# Altium schematic symbol library Schlib_Cypress.SchLib: 10 symbols
Pins are listed as number, name and electrical type; pins without a type are passive.

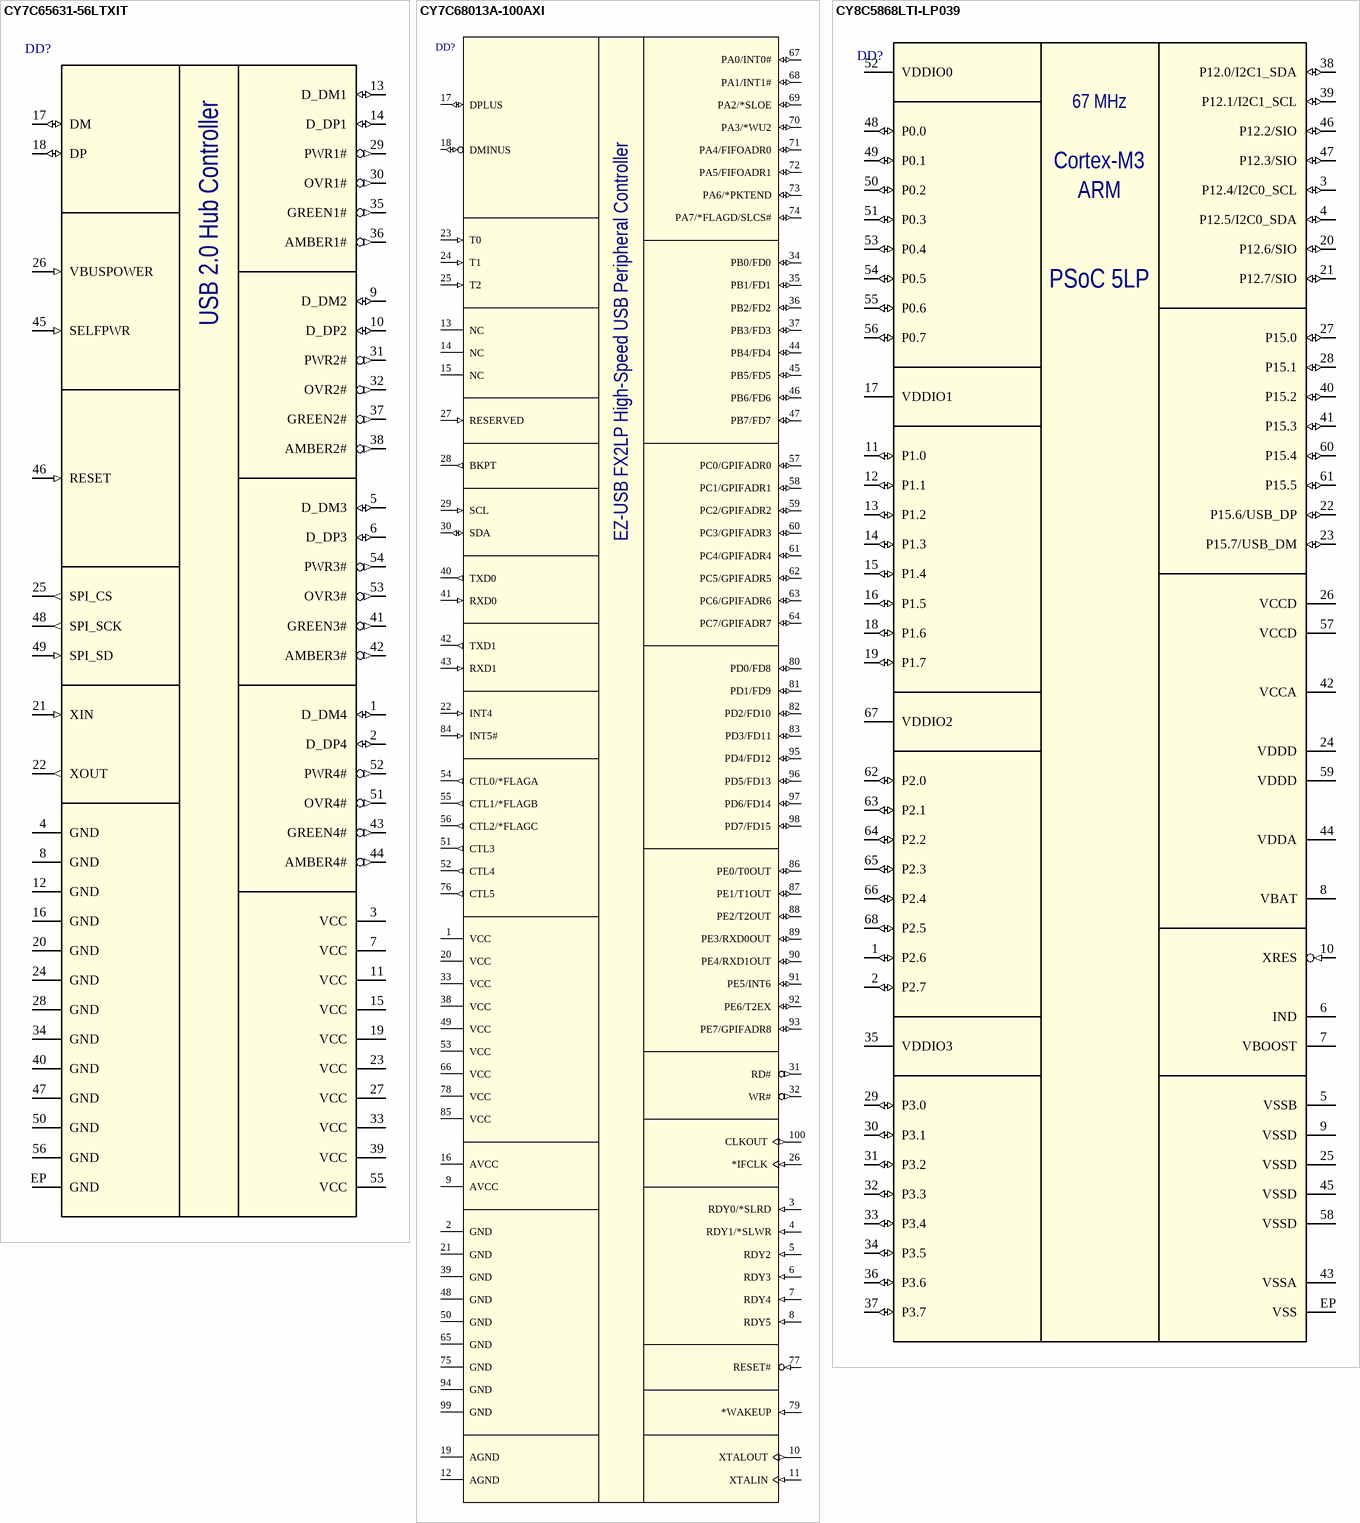
[diagram p0: symbols CY7C65631-56LTXIT to CY8C5868LTI-LP039]

## CY7C65631-56LTXIT
designator DD?  (value not drawn)
Low Power USB 2.0 Hub Controller (4 ports); Manufacturer: Cypress Semiconductor Corp.; Package: QFN-56; Part Number: CY7C65631-56LTXIT
footprint QFN56 (QFN56 package, 8x8mm, 0.5mm pitch)
pins: 1 D_DM4 (io), 2 D_DP4 (io), 3 VCC (power), 4 GND (power), 5 D_DM3 (io), 6 D_DP3 (io), 7 VCC (power), 8 GND (power), 9 D_DM2 (io), 10 D_DP2 (io), 11 VCC (power), 12 GND (power), 13 D_DM1 (io), 14 D_DP1 (io), 15 VCC (power), 16 GND (power), 17 DM (io), 18 DP (io), 19 VCC (power), 20 GND (power), 21 XIN (in), 22 XOUT (out), 23 VCC (power), 24 GND (power), 25 SPI_CS (out), 26 VBUSPOWER (in), 27 VCC (power), 28 GND (power), 29 PWR1# (out), 30 OVR1# (out), 31 PWR2# (out), 32 OVR2# (out), 33 VCC (power), 34 GND (power), 35 GREEN1# (out), 36 AMBER1# (out), 37 GREEN2# (out), 38 AMBER2# (out), 39 VCC (power), 40 GND (power), 41 GREEN3# (out), 42 AMBER3# (out), 43 GREEN4# (out), 44 AMBER4# (out), 45 SELFPWR (in), 46 RESET (in), 47 GND (power), 48 SPI_SCK (out), 49 SPI_SD (in), 50 GND (power), 51 OVR4# (out), 52 PWR4# (out), 53 OVR3# (out), 54 PWR3# (out), 55 VCC (power), 56 GND (power), EP GND (power)
text: USB 2.0 Hub Controller

## CY7C68013A-100AXI
designator DD?  (value not drawn)
EZ-USB FX2LP High-Speed USB Peripheral Controller; Manufacturer: Cypress Semiconductor Corp.; Package: 100-TQFP (14x20); Part Number: CY7C68013A-100AXI
footprint TQFP-100 (14x20) (TQFP, 100-Leads, Body 14.00x20.00mm, Pitch 0.65mm, IPC Medium Density)
pins: 1 VCC (power), 2 GND (power), 3 RDY0/*SLRD (in), 4 RDY1/*SLWR (in), 5 RDY2 (in), 6 RDY3 (in), 7 RDY4 (in), 8 RDY5 (in), 9 AVCC (power), 10 XTALOUT (out), 11 XTALIN (in), 12 AGND (power), 13 NC (hiz), 14 NC (hiz), 15 NC (hiz), 16 AVCC (power), 17 DPLUS (io), 18 DMINUS (io), 19 AGND (power), 20 VCC (power), 21 GND (power), 22 INT4 (in), 23 T0 (in), 24 T1 (in), 25 T2 (in), 26 *IFCLK (in), 27 RESERVED (in), 28 BKPT (out), 29 SCL (in), 30 SDA (io), 31 RD# (out), 32 WR# (out), 33 VCC (power), 34 PB0/FD0 (io), 35 PB1/FD1 (io), 36 PB2/FD2 (io), 37 PB3/FD3 (io), 38 VCC (power), 39 GND (power), 40 TXD0 (out), 41 RXD0 (in), 42 TXD1 (out), 43 RXD1 (in), 44 PB4/FD4 (io), 45 PB5/FD5 (io), 46 PB6/FD6 (io), 47 PB7/FD7 (io), 48 GND (power), 49 VCC (power), 50 GND (power), 51 CTL3 (out), 52 CTL4 (out), 53 VCC (power), 54 CTL0/*FLAGA (out), 55 CTL1/*FLAGB (out), 56 CTL2/*FLAGC (out), 57 PC0/GPIFADR0 (io), 58 PC1/GPIFADR1 (io), 59 PC2/GPIFADR2 (io), 60 PC3/GPIFADR3 (io), 61 PC4/GPIFADR4 (io), 62 PC5/GPIFADR5 (io), 63 PC6/GPIFADR6 (io), 64 PC7/GPIFADR7 (io), 65 GND (power), 66 VCC (power), 67 PA0/INT0# (io), 68 PA1/INT1# (io), 69 PA2/*SLOE (io), 70 PA3/*WU2 (io), 71 PA4/FIFOADR0 (io), 72 PA5/FIFOADR1 (io), 73 PA6/*PKTEND (io), 74 PA7/*FLAGD/SLCS# (io), 75 GND (power), 76 CTL5 (out), 77 RESET# (in), 78 VCC (power), 79 *WAKEUP (in), 80 PD0/FD8 (io), 81 PD1/FD9 (io), 82 PD2/FD10 (io), 83 PD3/FD11 (io), 84 INT5# (in), 85 VCC (power), 86 PE0/T0OUT (io), 87 PE1/T1OUT (io), 88 PE2/T2OUT (io), 89 PE3/RXD0OUT (io), 90 PE4/RXD1OUT (io), 91 PE5/INT6 (io), 92 PE6/T2EX (io), 93 PE7/GPIFADR8 (io), 94 GND (power), 95 PD4/FD12 (io), 96 PD5/FD13 (io), 97 PD6/FD14 (io), 98 PD7/FD15 (io), 99 GND (power), 100 CLKOUT (out)

## CY8C5868LTI-LP039
designator DD?  (value not drawn)
Embedded Programmable System-on-Chip PSoC 5LP; Manufacturer: Cypress Semiconductor Corp.; Package: 68-VFQFN Exposed Pad; Dimension package: 8 x 8 x 0.75 mm; Part Number: CY8C5868LTI-LP039
footprint QFN68 (QFN68, 8x8mm with 0.4mm pitch)
pins: 1 P2.6 (io), 2 P2.7 (io), 3 P12.4/I2C0_SCL (io), 4 P12.5/I2C0_SDA (io), 5 VSSB (power), 6 IND (hiz), 7 VBOOST (power), 8 VBAT (power), 9 VSSD (power), 10 XRES (in), 11 P1.0 (io), 12 P1.1 (io), 13 P1.2 (io), 14 P1.3 (io), 15 P1.4 (io), 16 P1.5 (io), 17 VDDIO1 (power), 18 P1.6 (io), 19 P1.7 (io), 20 P12.6/SIO (io), 21 P12.7/SIO (io), 22 P15.6/USB_DP (io), 23 P15.7/USB_DM (io), 24 VDDD (power), 25 VSSD (power), 26 VCCD (power), 27 P15.0 (io), 28 P15.1 (io), 29 P3.0 (io), 30 P3.1 (io), 31 P3.2 (io), 32 P3.3 (io), 33 P3.4 (io), 34 P3.5 (io), 35 VDDIO3 (power), 36 P3.6 (io), 37 P3.7 (io), 38 P12.0/I2C1_SDA (io), 39 P12.1/I2C1_SCL (io), 40 P15.2 (io), 41 P15.3 (io), 42 VCCA (power), 43 VSSA (power), 44 VDDA (power), 45 VSSD (power), 46 P12.2/SIO (io), 47 P12.3/SIO (io), 48 P0.0 (io), 49 P0.1 (io), 50 P0.2 (io), 51 P0.3 (io), 52 VDDIO0 (power), 53 P0.4 (io), 54 P0.5 (io), 55 P0.6 (io), 56 P0.7 (io), 57 VCCD (power), 58 VSSD (power), 59 VDDD (power), 60 P15.4 (io), 61 P15.5 (io), 62 P2.0 (io), 63 P2.1 (io), 64 P2.2 (io), 65 P2.3 (io), 66 P2.4 (io), 67 VDDIO2 (power), 68 P2.5 (io), EP VSS (power)
text: 67 MHz; Cortex-M3; ARM; PSoC 5LP

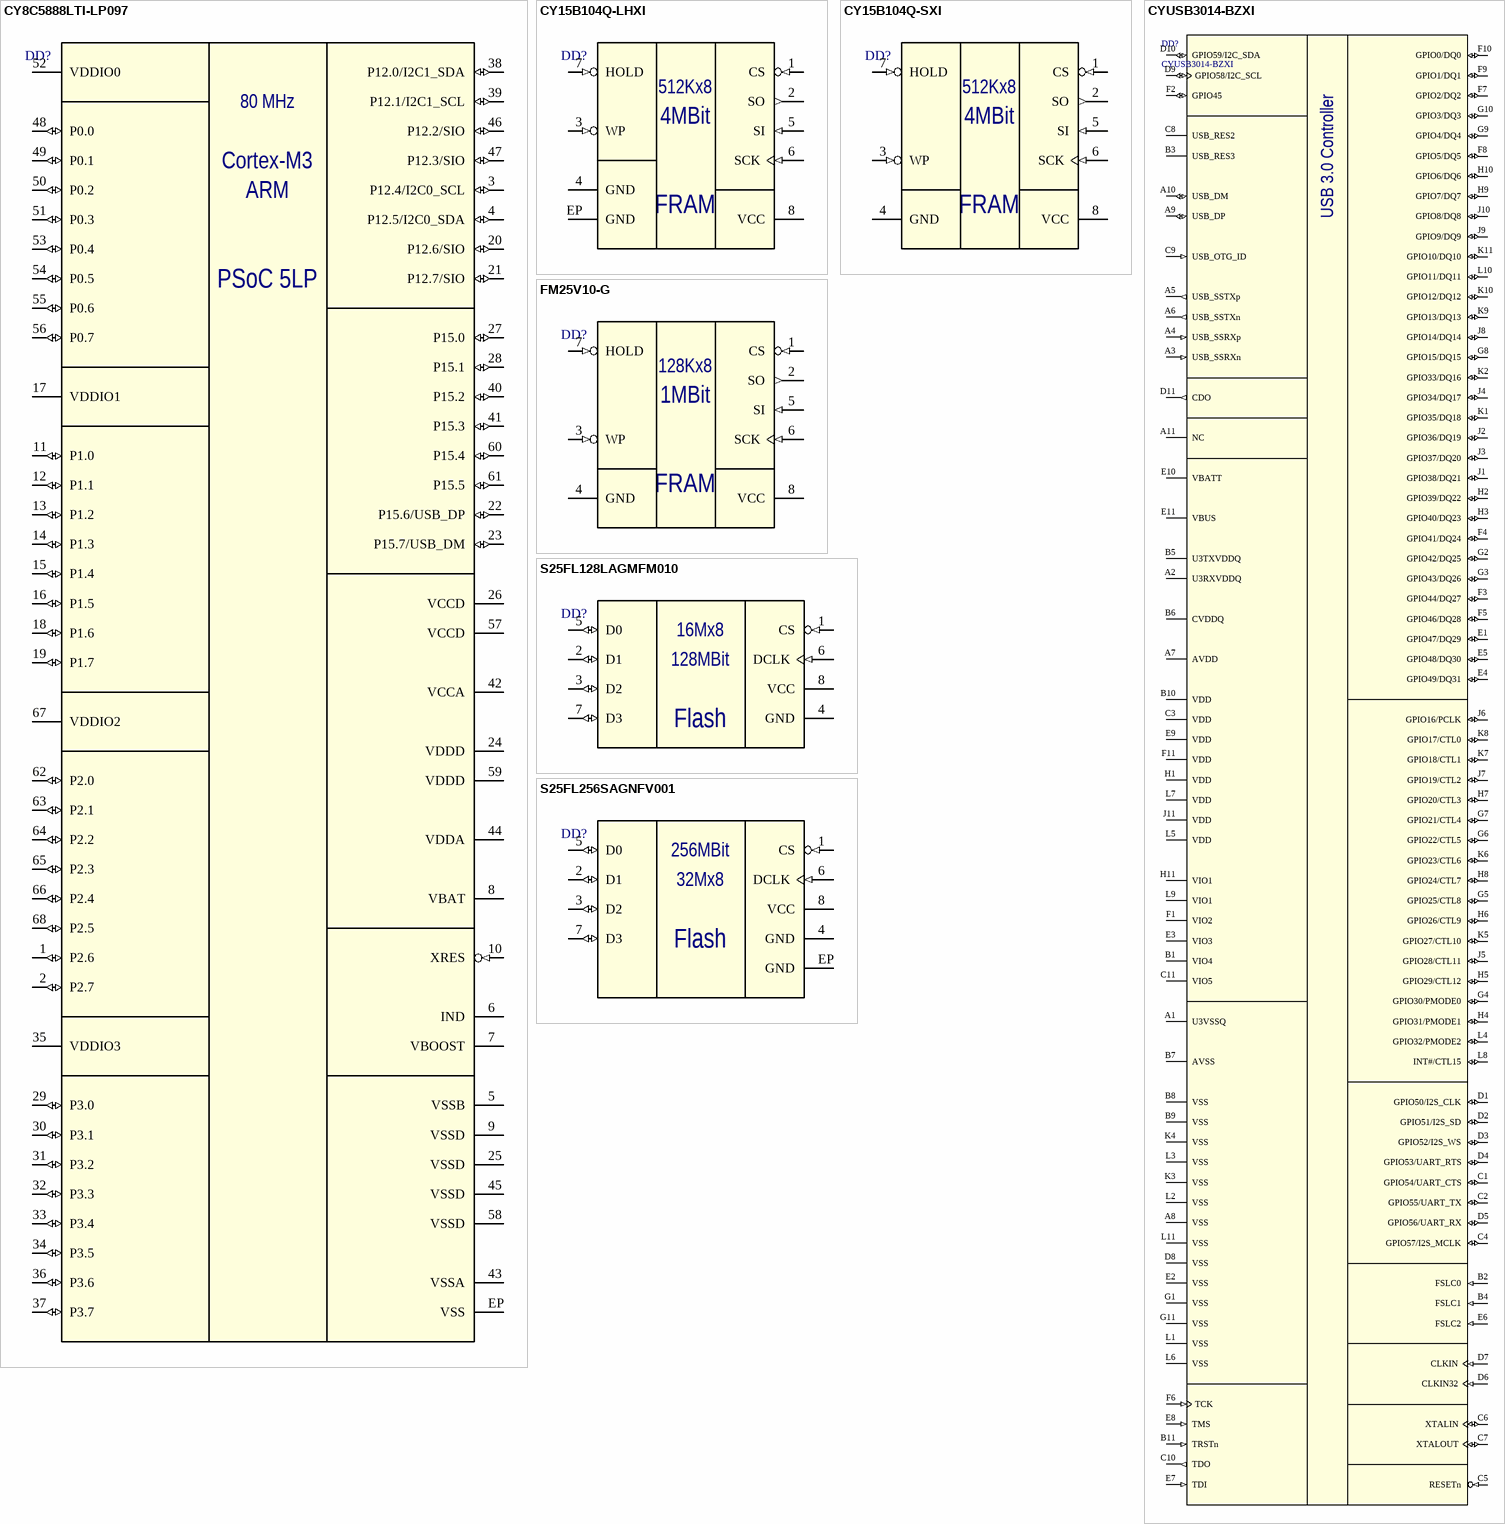
[diagram p1: symbols CY8C5888LTI-LP097 to S25FL256SAGNFV001]

## CY8C5888LTI-LP097
designator DD?  (value not drawn)
Embedded Programmable System-on-Chip PSoC 5LP; Manufacturer: Cypress Semiconductor Corp.; Package: 68-VFQFN Exposed Pad; Dimension package: 8 x 8 x 0.75 mm; Part Number: CY8C5888LTI-LP097
footprint QFN68 (QFN68, 8x8mm with 0.4mm pitch)
pins: 1 P2.6 (io), 2 P2.7 (io), 3 P12.4/I2C0_SCL (io), 4 P12.5/I2C0_SDA (io), 5 VSSB (power), 6 IND (hiz), 7 VBOOST (power), 8 VBAT (power), 9 VSSD (power), 10 XRES (in), 11 P1.0 (io), 12 P1.1 (io), 13 P1.2 (io), 14 P1.3 (io), 15 P1.4 (io), 16 P1.5 (io), 17 VDDIO1 (power), 18 P1.6 (io), 19 P1.7 (io), 20 P12.6/SIO (io), 21 P12.7/SIO (io), 22 P15.6/USB_DP (io), 23 P15.7/USB_DM (io), 24 VDDD (power), 25 VSSD (power), 26 VCCD (power), 27 P15.0 (io), 28 P15.1 (io), 29 P3.0 (io), 30 P3.1 (io), 31 P3.2 (io), 32 P3.3 (io), 33 P3.4 (io), 34 P3.5 (io), 35 VDDIO3 (power), 36 P3.6 (io), 37 P3.7 (io), 38 P12.0/I2C1_SDA (io), 39 P12.1/I2C1_SCL (io), 40 P15.2 (io), 41 P15.3 (io), 42 VCCA (power), 43 VSSA (power), 44 VDDA (power), 45 VSSD (power), 46 P12.2/SIO (io), 47 P12.3/SIO (io), 48 P0.0 (io), 49 P0.1 (io), 50 P0.2 (io), 51 P0.3 (io), 52 VDDIO0 (power), 53 P0.4 (io), 54 P0.5 (io), 55 P0.6 (io), 56 P0.7 (io), 57 VCCD (power), 58 VSSD (power), 59 VDDD (power), 60 P15.4 (io), 61 P15.5 (io), 62 P2.0 (io), 63 P2.1 (io), 64 P2.2 (io), 65 P2.3 (io), 66 P2.4 (io), 67 VDDIO2 (power), 68 P2.5 (io), EP VSS (power)
text: 80 MHz; Cortex-M3; ARM; PSoC 5LP

## CY15B104Q-LHXI
designator DD?  (value not drawn)
FRAM Memory 4MBit (512K x 8); Manufacturer: Cypress Semiconductor Corp.; Package: TDFN-8; Dimension package: 5 x 6 x 0.75 mm; Part Number: CY15B104Q-LHXI
footprint SON-8 (SON-8, 8-Leads, Body 6,00x5,00mm, Pitch 1,27mm, Thermal Pad 4,1x2,4mm)
pins: 1 CS (in), 2 SO (out), 3 WP (in), 4 GND (power), 5 SI (in), 6 SCK (in), 7 HOLD (in), 8 VCC (power), EP GND (power)
text: 512Kx8; 4MBit; FRAM

## CY15B104Q-SXI
designator DD?  (value not drawn)
FRAM Memory 4MBit (512K x 8); Manufacturer: Cypress Semiconductor Corp.; Package: SOIC8; Part Number: CY15B104Q-SXI
footprint SOIC-8-WIDE (SOIC, 8-Leads, Body 4.50x4.50mm, Pitch 1.27mm, Thermal Pad 4.20x4.20mm, IPC Medium Density)
pins: 1 CS (in), 2 SO (out), 3 WP (in), 4 GND (power), 5 SI (in), 6 SCK (in), 7 HOLD (in), 8 VCC (power)
text: 512Kx8; 4MBit; FRAM

## CYUSB3014-BZXI
designator DD?
EZ-USB® FX3: SuperSpeed USB Controller; Manufacturer: Cypress Semiconductor Corp.; Package: BGA-121; Part Nubmer: CYUSB3014-BZXI
footprint BGA-121 (BGA-121 package with 0.8mm pitch)
pins: A1 U3VSSQ (power), A2 U3RXVDDQ (power), A3 USB_SSRXn (in), A4 USB_SSRXp (in), A5 USB_SSTXp (out), A6 USB_SSTXn (out), A7 AVDD (power), A8 VSS (power), A9 USB_DP (io), A10 USB_DM (io), A11 NC, B1 VIO4 (power), B2 FSLC0 (in), B3 USB_RES3, B4 FSLC1 (in), B5 U3TXVDDQ (power), B6 CVDDQ (power), B7 AVSS (power), B8 VSS (power), B9 VSS (power), B10 VDD (power), B11 TRSTn (in), C1 GPIO54/UART_CTS (io), C2 GPIO55/UART_TX (io), C3 VDD (power), C4 GPIO57/I2S_MCLK (io), C5 RESETn (in), C6 XTALIN (io), C7 XTALOUT (io), C8 USB_RES2, C9 USB_OTG_ID (in), C10 TDO (out), C11 VIO5 (power), D1 GPIO50/I2S_CLK (io), D2 GPIO51/I2S_SD (io), D3 GPIO52/I2S_WS (io), D4 GPIO53/UART_RTS (io), D5 GPIO56/UART_RX (io), D6 CLKIN32 (in), D7 CLKIN (in), D8 VSS (power), D9 GPIO58/I2C_SCL (io), D10 GPIO59/I2C_SDA (io), D11 CDO (out), E1 GPIO47/DQ29 (io), E2 VSS (power), E3 VIO3 (power), E4 GPIO49/DQ31 (io), E5 GPIO48/DQ30 (io), E6 FSLC2 (in), E7 TDI (in), E8 TMS (in), E9 VDD (power), E10 VBATT (power), E11 VBUS (power), F1 VIO2 (power), F2 GPIO45 (io), F3 GPIO44/DQ27 (io), F4 GPIO41/DQ24 (io), F5 GPIO46/DQ28 (io), F6 TCK (in), F7 GPIO2/DQ2 (io), F8 GPIO5/DQ5 (io), F9 GPIO1/DQ1 (io), F10 GPIO0/DQ0 (io), F11 VDD (power), G1 VSS (power), G2 GPIO42/DQ25 (io), G3 GPIO43/DQ26 (io), G4 GPIO30/PMODE0 (io), G5 GPIO25/CTL8 (io), G6 GPIO22/CTL5 (io), G7 GPIO21/CTL4 (io), G8 GPIO15/DQ15 (io), G9 GPIO4/DQ4 (io), G10 GPIO3/DQ3 (io), G11 VSS (power), H1 VDD (power), H2 GPIO39/DQ22 (io), H3 GPIO40/DQ23 (io), H4 GPIO31/PMODE1 (io), H5 GPIO29/CTL12 (io), H6 GPIO26/CTL9 (io), H7 GPIO20/CTL3 (io), H8 GPIO24/CTL7 (io), H9 GPIO7/DQ7 (io), H10 GPIO6/DQ6 (io), H11 VIO1 (power), J1 GPIO38/DQ21 (io), J2 GPIO36/DQ19 (io), J3 GPIO37/DQ20 (io), J4 GPIO34/DQ17 (io), J5 GPIO28/CTL11 (io), J6 GPIO16/PCLK (io), J7 GPIO19/CTL2 (io), J8 GPIO14/DQ14 (io), J9 GPIO9/DQ9 (io), J10 GPIO8/DQ8 (io), J11 VDD (power), K1 GPIO35/DQ18 (io), K2 GPIO33/DQ16 (io), K3 VSS (power), K4 VSS (power), K5 GPIO27/CTL10 (io), K6 GPIO23/CTL6 (io), K7 GPIO18/CTL1 (io), K8 GPIO17/CTL0 (io), K9 GPIO13/DQ13 (io), K10 GPIO12/DQ12 (io), K11 GPIO10/DQ10 (io), L1 VSS (power), L2 VSS (power), L3 VSS (power), L4 GPIO32/PMODE2 (io), L5 VDD (power), L6 VSS (power), L7 VDD (power), L8 INT#/CTL15 (io), L9 VIO1 (power), L10 GPIO11/DQ11 (io), L11 VSS (power)
text: USB 3.0 Controller

## FM25V10-G
designator DD?  (value not drawn)
FRAM Memory 1MBit (128K x 8); Manufacturer: Cypress Semiconductor Corp.; Package: SOIC8 (150 mil); Part Number: FM25V10-G
footprint SOIC-8 (SOIC-8 package)
pins: 1 CS (in), 2 SO (out), 3 WP (in), 4 GND (power), 5 SI (in), 6 SCK (in), 7 HOLD (in), 8 VCC (power)
text: 128Kx8; 1MBit; FRAM

## S25FL128LAGMFM010
designator DD?  (value not drawn)
Flash Memory 128MBit (16M x 8); Manufacturer: Cypress Semiconductor Corp.; Package: SOIC8; Part Number: S25FL128LAGMFM010
footprint SOIC-8-WIDE (SOIC, 8-Leads, Body 4.50x4.50mm, Pitch 1.27mm, Thermal Pad 4.20x4.20mm, IPC Medium Density)
pins: 1 CS (in), 2 D1 (io), 3 D2 (io), 4 GND (power), 5 D0 (io), 6 DCLK (in), 7 D3 (io), 8 VCC (power)
text: 16Mx8; 128MBit; Flash

## S25FL256SAGNFV001
designator DD?  (value not drawn)
Flash Memory 256MBit (32M x 8); Manufacturer: Cypress Semiconductor Corp.; Package: WSON-8; Dimension package: 6 x 8 x 0.75 mm; Part Number: S25FL256SAGNFV001
footprint WSON-8 (WSON-8, 8-Leads, Body 6,00x8,00mm, Pitch 1,27mm, Thermal Pad 4,90x4,75mm)
pins: 1 CS (in), 2 D1 (io), 3 D2 (io), 4 GND (power), 5 D0 (io), 6 DCLK (in), 7 D3 (io), 8 VCC (power), EP GND (power)
text: 256MBit; 32Mx8; Flash